# Altium footprint library airu-board.PCBLIB: 118 footprints (part 2 of 8)
Each footprint in its own frame and in the unit in brackets; x right, y up, seen from the top. Pads: shape width x height; smd on the part's side, far side on the other; paste and mask are expansions set on the pad; w line width, h text height; cw(c..) or ccw(c..) is an arc to the next point about the centre after c.
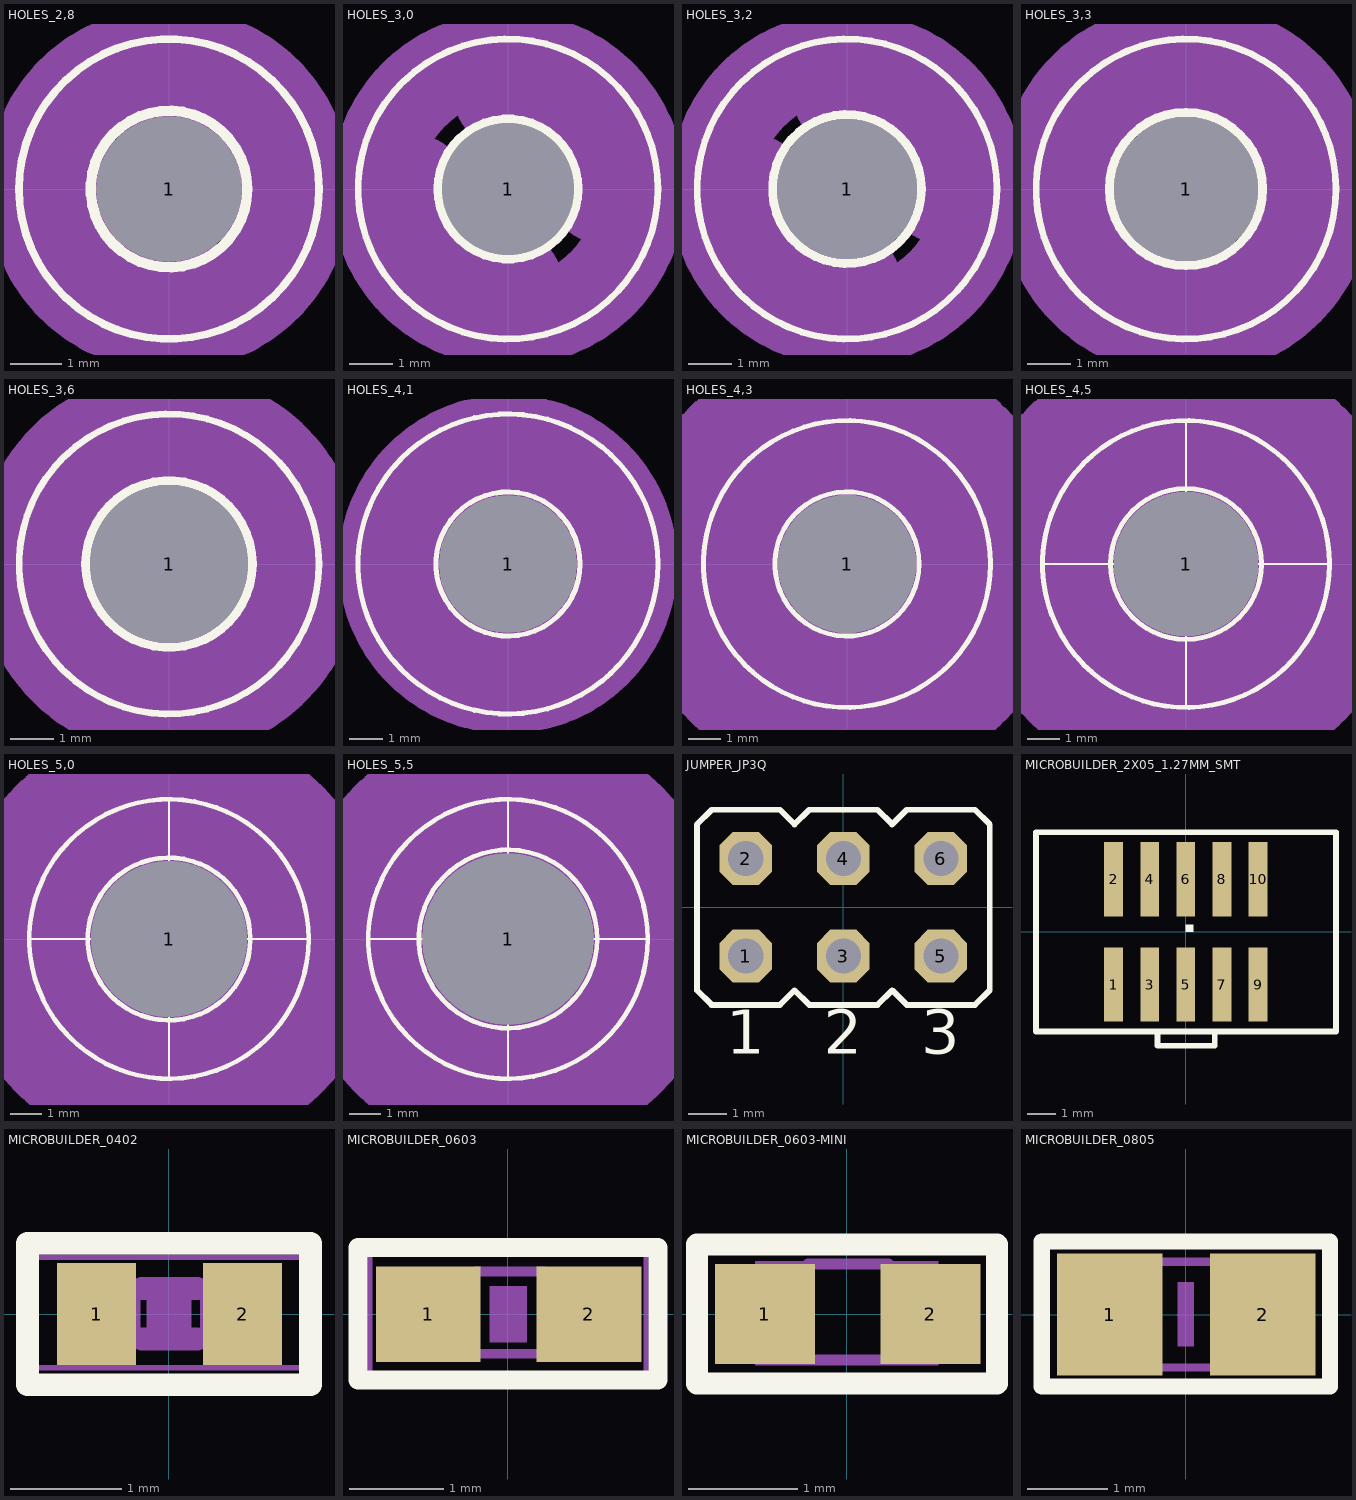
[diagram p1: the footprints below, top view; thin cyan lines are the x and y axes]

## HOLES_2,8 [mil]
pads (1):
  round 111 hole 111: 1(0,0)
Top Overlay:
  circle w6: c0,0 r115
  circle w8: c0,0 r60
Mechanical 8:
  circle w80: c0,0 r100
Mechanical 9:
  circle w80: c0,0 r100
Mechanical 10:
  circle w80: c0,0 r100
Mechanical 16:
  circle w18: c0,0 r25
  lines w90: -70,0 ccw(c0,0) 0,-70 ; 0,70 cw(c0,0) 70,0
Mechanical 27:
  circle w80: c0,0 r100
Mechanical 28:
  circle w80: c0,0 r100

## HOLES_3,0 [mil]
pads (1):
  round 119 hole 119: 1(0,0)
Top Overlay:
  circle w6: c0,0 r135
  circle w8: c0,0 r63
Mechanical 8:
  circle w80: c0,0 r120
Mechanical 9:
  circle w80: c0,0 r120
Mechanical 10:
  circle w80: c0,0 r120
Mechanical 13:
  text "3,0" at -50,-150 h77.5
Mechanical 16:
  circle w18: c0,0 r30
  lines w98: -85,0 ccw(c0,0) 0,-85 ; 0,85 cw(c0,0) 85,0
Mechanical 27:
  circle w80: c0,0 r120
Mechanical 28:
  circle w80: c0,0 r120

## HOLES_3,2 [mil]
pads (1):
  round 126 hole 126: 1(0,0)
Top Overlay:
  circle w6: c0,0 r135
  circle w8: c0,0 r67
Mechanical 8:
  circle w80: c0,0 r120
Mechanical 9:
  circle w80: c0,0 r120
Mechanical 10:
  circle w80: c0,0 r120
Mechanical 16:
  circle w18: c0,0 r30
  lines w98: -85,0 ccw(c0,0) 0,-85 ; 0,85 cw(c0,0) 85,0
Mechanical 27:
  circle w80: c0,0 r120
Mechanical 28:
  circle w80: c0,0 r120

## HOLES_3,3 [mil]
pads (1):
  round 130 hole 130: 1(0,0)
Top Overlay:
  circle w6: c0,0 r135
  circle w8: c0,0 r69
Mechanical 8:
  circle w80: c0,0 r120
Mechanical 9:
  circle w80: c0,0 r120
Mechanical 10:
  circle w80: c0,0 r120
Mechanical 16:
  circle w18: c0,0 r30
  lines w98: -85,0 ccw(c0,0) 0,-85 ; 0,85 cw(c0,0) 85,0
Mechanical 27:
  circle w100: c0,0 r120
Mechanical 28:
  circle w100: c0,0 r120

## HOLES_3,6 [mil]
pads (1):
  round 142 hole 142: 1(0,0)
Top Overlay:
  circle w6: c0,0 r135
  circle w8: c0,0 r75
Mechanical 8:
  circle w80: c0,0 r120
Mechanical 9:
  circle w80: c0,0 r120
Mechanical 10:
  circle w80: c0,0 r120
Mechanical 16:
  circle w18: c0,0 r30
  lines w98: -85,0 ccw(c0,0) 0,-85 ; 0,85 cw(c0,0) 85,0
Mechanical 27:
  circle w109: c0,0 r120
Mechanical 28:
  circle w109: c0,0 r120

## HOLES_4,1 [mil]
pads (1):
  round 162 hole 162: 1(0,0)
Top Overlay:
  circle w6: c0,0 r177
  circle w6: c0,0 r85
Mechanical 8:
  circle w100: c0,0 r150
Mechanical 9:
  circle w100: c0,0 r150
Mechanical 10:
  circle w100: c0,0 r150
Mechanical 16:
  circle w18: c0,0 r30
  lines w154: -100,0 ccw(c0,0) 0,-100 ; 0,100 cw(c0,0) 100,0
Mechanical 27:
  circle w100: c0,0 r150
Mechanical 28:
  circle w100: c0,0 r150

## HOLES_4,3 [mil]
pads (1):
  round 170 hole 170: 1(0,0)
Top Overlay:
  circle w6: c0,0 r177
  circle w6: c0,0 r89
Mechanical 8:
  circle w100: c0,0 r151
Mechanical 9:
  circle w100: c0,0 r150
Mechanical 10:
  circle w100: c0,0 r150
Mechanical 16:
  circle w6: c0,0 r30
  lines w154: -100,0 ccw(c0,0) 0,-100 ; 0,100 cw(c0,0) 100,0
Mechanical 27:
  circle w179: c0,0 r185
Mechanical 28:
  circle w179: c0,0 r185

## HOLES_4,5 [mil]
pads (1):
  round 178 hole 178: 1(0,0)
Top Overlay:
  circle w6: c0,0 r177
  circle w6: c0,0 r93
  lines w2: -175,0 -85,0 ; 0,-175 0,-85 ; 0,85 0,175 ; 85,0 175,0
Mechanical 8:
  circle w100: c0,0 r151
Mechanical 9:
  circle w100: c0,0 r150
Mechanical 10:
  circle w100: c0,0 r150
Mechanical 13:
  text "4,5" at -50,-175 h77.5
Mechanical 16:
  circle w18: c0,0 r30
  lines w154: -100,0 ccw(c0,0) 0,-100 ; 0,100 cw(c0,0) 100,0
Mechanical 27:
  circle w179: c0,0 r185
Mechanical 28:
  circle w179: c0,0 r185

## HOLES_5,0 [mil]
pads (1):
  round 197 hole 197: 1(0,0)
Top Overlay:
  circle w6: c0,0 r177
  circle w6: c0,0 r103
  lines w2: -175,0 -85,0 ; 0,-175 0,-85 ; 0,85 0,175 ; 85,0 175,0
Mechanical 8:
  circle w100: c0,0 r190
Mechanical 9:
  circle w100: c0,0 r190
Mechanical 10:
  circle w100: c0,0 r190
Mechanical 13:
  text "5,0" at -50,-175 h77.5
Mechanical 16:
  circle w18: c0,0 r30
  lines w154: -100,0 ccw(c0,0) 0,-100 ; 0,100 cw(c0,0) 100,0
Mechanical 27:
  circle w179: c0,0 r185
Mechanical 28:
  circle w179: c0,0 r185

## HOLES_5,5 [mil]
pads (1):
  round 217 hole 217: 1(0,0)
Top Overlay:
  circle w6: c0,0 r177
  circle w6: c0,0 r113
  lines w2: -175,0 -85,0 ; 0,-175 0,-85 ; 0,85 0,175 ; 85,0 175,0
Mechanical 8:
  circle w100: c0,0 r190
Mechanical 9:
  circle w100: c0,0 r190
Mechanical 10:
  circle w100: c0,0 r190
Mechanical 16:
  circle w18: c0,0 r30
  lines w154: -100,0 ccw(c0,0) 0,-100 ; 0,100 cw(c0,0) 100,0
Mechanical 27:
  circle w179: c0,0 r185
Mechanical 28:
  circle w179: c0,0 r185

## JUMPER_JP3Q [mil]
pads (6):
  oct 54x54 hole 36: 1(-100,-50) 2(-100,50) 3(0,-50) 4(0,50) 5(100,-50) 6(100,50)
Top Overlay:
  lines w6: -150,-85 -150,85 -135,100 -65,100 -50,85 -35,100 35,100 50,85 65,100 135,100 150,85 150,-85 135,-100 65,-100 50,-85 35,-100 -35,-100 -50,-85 -65,-100 -135,-100 -150,-85
  text "1" at -120,-165 h77.5
  text "2" at -20,-165 h77.5
  text "3" at 80,-165 h77.5
Mechanical 16:
  rectangle: -112,38 -88,62
  rectangle: -12,38 12,62
  rectangle: 88,38 112,62
  rectangle: -112,-62 -88,-38
  rectangle: -12,-62 12,-38
  rectangle: 88,-62 112,-38

## MICROBUILDER_2X05_1.27MM_SMT [mil]
pads (10):
  rect 26x103 smd: 1(-100,-72.83) 2(-100,73) 3(-50,-72.83) 4(-50,73) 5(0,-72.83) 6(0,73) 7(50,-72.83) 8(50,73) 9(100,-72.83) 10(100,73)
Top Overlay:
  region: 0,0 10,0 10,10 0,10
  lines w8: -39.37,-137.8 40,-137.8 ; -39.37,-137.8 -207.48,-137.8 -207.48,138 208,138 208,-137.8 40,-137.8 ; -39.37,-137.8 -39.37,-157.48 40,-157.48 40,-137.8

## MICROBUILDER_0402 [mil]
pads (2):
  rect 28x36 smd: 1(-25.59,0) 2(26,0)
Top Overlay:
  lines w8: -50,-25 -50,25 50,25 50,-25 -50,-25
Mechanical 6:
  rectangle: -7.87,-11.81 8,12
Mechanical 16:
  rectangle: -21.81,-12 -10,12
  rectangle: 11,-12 22,12
  lines w8: -9.65,-8.82 10,-8.82 ; -9.65,9 10,9
Mechanical 27:
  lines w2: -52.99,-19.02 53,-19.02 53,20 -52.99,20 -52.99,-19.02

## MICROBUILDER_0603 [mil]
pads (2):
  rect 44x40 smd: 1(-33.46,0) 2(34,0)
Top Overlay:
  lines w8: -62.99,-27.56 63,-27.56 63,28 -62.99,28 -62.99,-27.56
Mechanical 6:
  rectangle: -7.87,-11.81 8,12
Mechanical 16:
  rectangle: -33,-18.5 -13.31,19
  rectangle: 13,-18.5 33,19
  lines w4: -14.02,-16.5 15,-16.5 ; -14.02,18 15,18
Mechanical 27:
  lines w2: -57.99,-28.7 58,-28.7 58,29 -57.99,29 -57.99,-28.7

## MICROBUILDER_0603-MINI [mil]
pads (2):
  rect 36x36 smd: 1(-29.53,0) 2(30,0)
Top Overlay:
  lines w8: -53.94,-25 -53.94,25 54,25 54,-25 -53.94,-25
Mechanical 16:
  rectangle: -33,-18.5 -13.31,19
  rectangle: 13,-18.5 33,19
  lines w4: -14.02,-16.5 15,-16.5 ; -14.02,18 15,18
Mechanical 27:
  lines w2: -52.99,-22.95 53,-22.95 53,23 -52.99,23 -52.99,-22.95

## MICROBUILDER_0805 [mil]
pads (2):
  rect 52x60 smd: 1(-37.4,0) 2(38,0)
Top Overlay:
  lines w8: -70.87,-35.43 71,-35.43 71,36 -70.87,36 -70.87,-35.43
Mechanical 6:
  rectangle: -3.94,-15.75 4,16
Mechanical 16:
  rectangle: -43,-28.5 -13.47,29
  rectangle: 14,-28.5 44,29
  lines w4: -15,26 15,26 ; -14.02,-25.98 15,-25.98
Mechanical 27:
  lines w2: -73.74,-34.76 74,-34.76 74,35 -73.74,35 -73.74,-34.76